# Altium schematic symbol library ADG884BRMZ.SchLib: 1 symbol
Pins are listed as number, name and electrical type; pins without a type are passive.

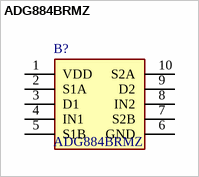
[diagram p0: symbol ADG884BRMZ]

## ADG884BRMZ
designator B?
ADG884BRMZ, Analogue SPDT Switch Dual SPDT, 3, 5V, 10-Pin, MSOP; Manufacturer_Name: Analog Devices; Geometry.Height: 1.1mm; Mouser Part Number: 584-ADG884BRMZ; Mouser Price/Stock: https://www.mouser.co.uk/ProductDetail/Analog-Devices/ADG884BRMZ?qs=BpaRKvA4VqHGAEKiRnJ1Qg%3D%3D; Manufacturer_Part_Number: ADG884BRMZ; Datasheet Link: http://www.analog.com/static/imported-files/data_sheets/ADG884.pdf
footprint SOP50P490X110-10N
pins: 1 VDD, 2 S1A, 3 D1, 4 IN1, 5 S1B, 6 GND, 7 S2B, 8 IN2, 9 D2, 10 S2A